# EAGLE library part AT32UC3C0128/0256/0512 (library atmel-avr32-michel)
AT32UC3C0128/0256/0512
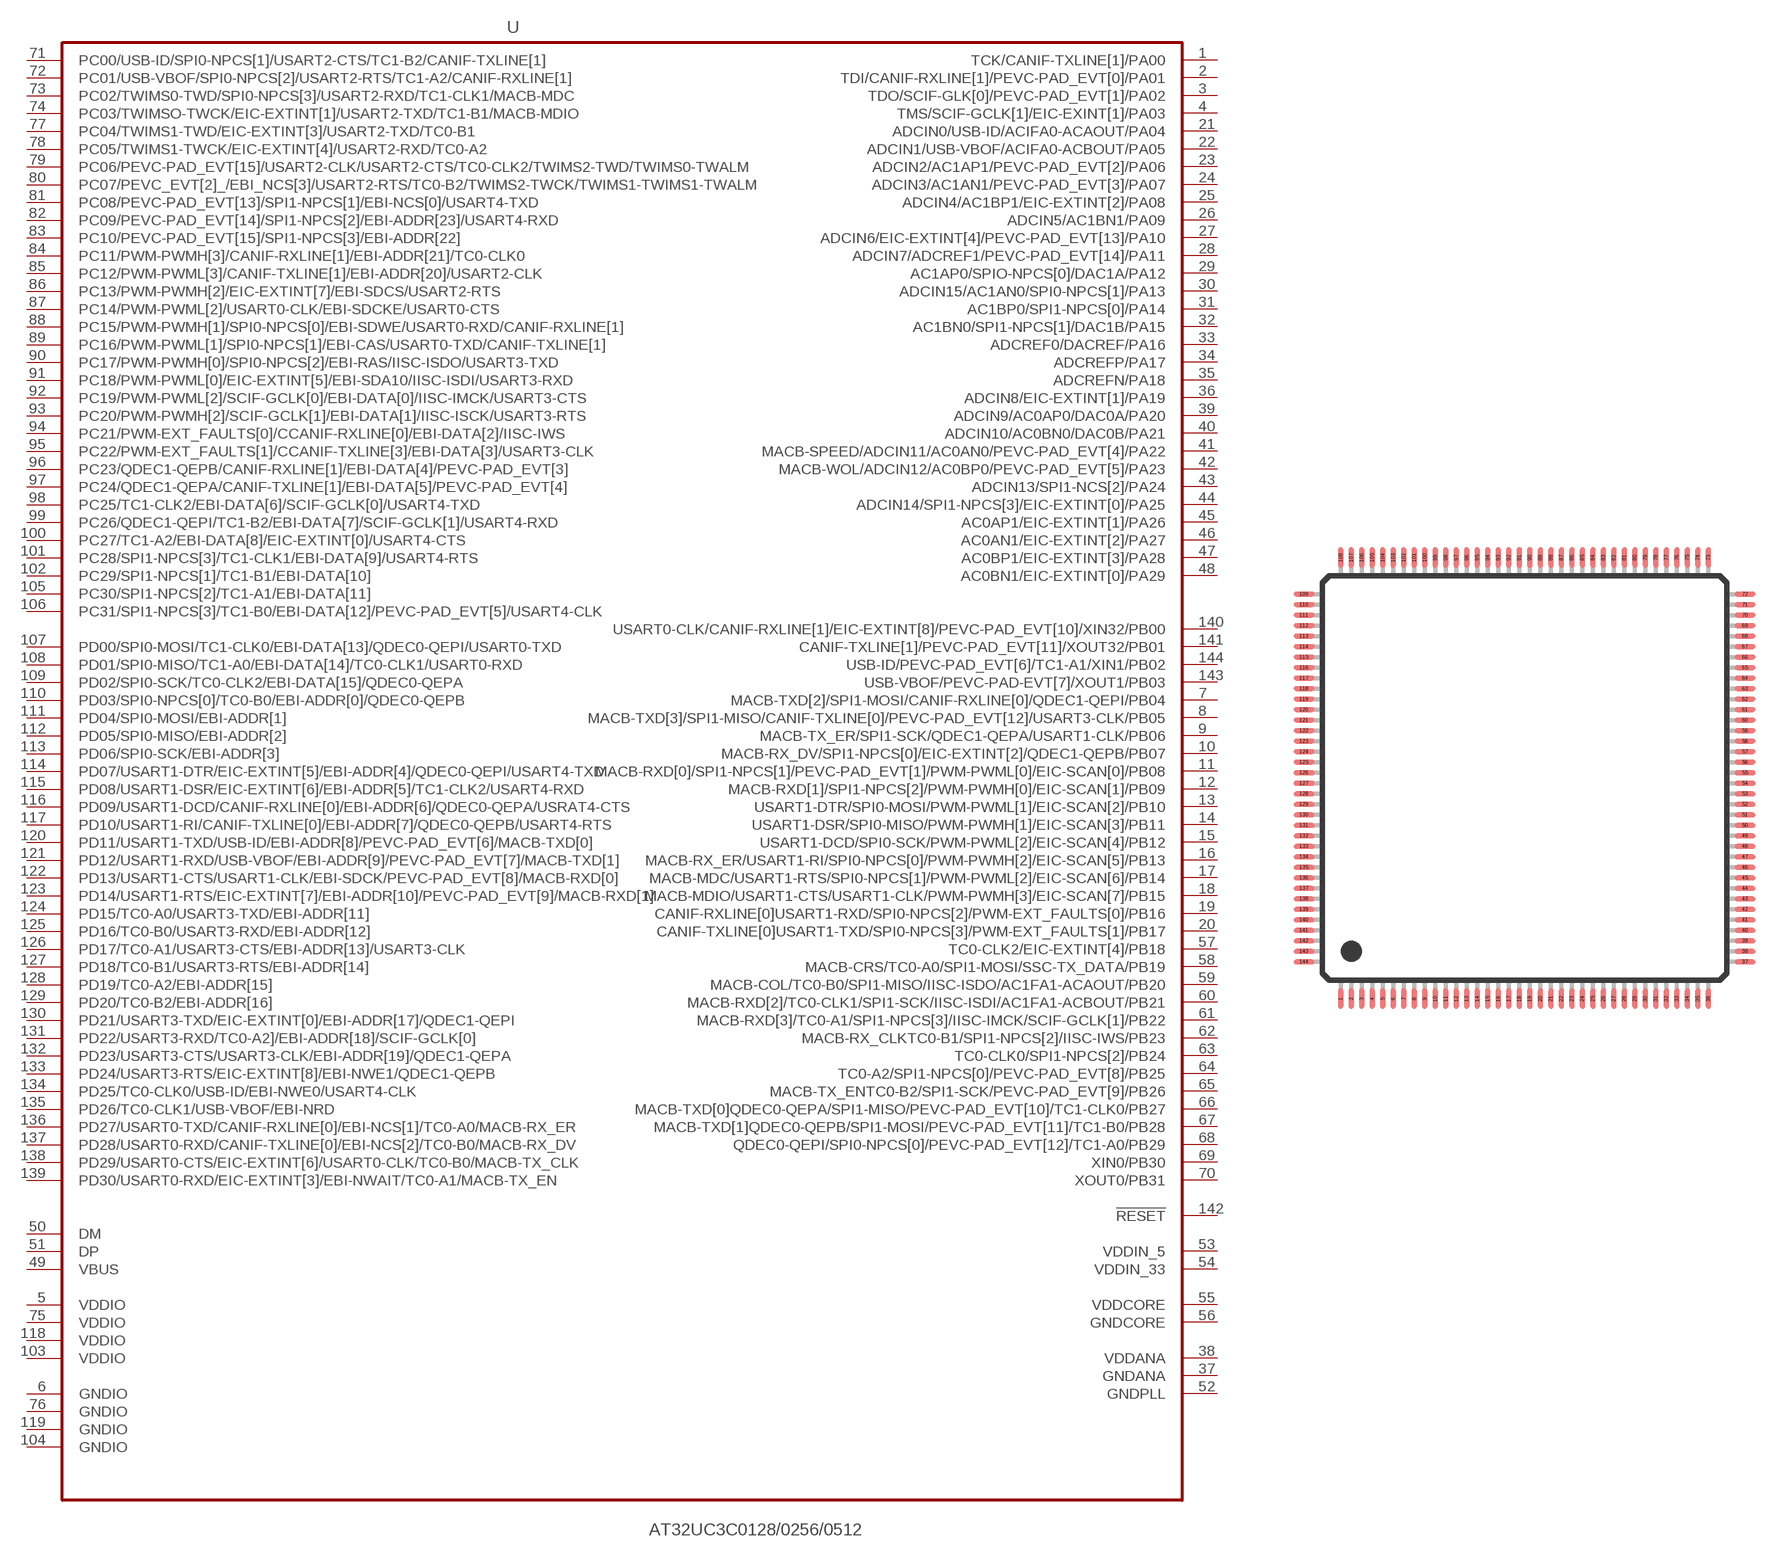
[diagram p5: symbol with the pads of LQFP144; footprint LQFP144]

Designator prefix U

## AT32UC3C0128/0256/0512 (PLACE_PART: YES)  [LQFP144]
1  TCK/CANIF-TXLINE[1]/PA00
2  TDI/CANIF-RXLINE[1]/PEVC-PAD_EVT[0]/PA01
3  TDO/SCIF-GLK[0]/PEVC-PAD_EVT[1]/PA02
4  TMS/SCIF-GCLK[1]/EIC-EXINT[1]/PA03
5  VDDIO  pwr
6  GNDIO  pwr
7  MACB-TXD[2]/SPI1-MOSI/CANIF-RXLINE[0]/QDEC1-QEPI/PB04
8  MACB-TXD[3]/SPI1-MISO/CANIF-TXLINE[0]/PEVC-PAD_EVT[12]/USART3-CLK/PB05
9  MACB-TX_ER/SPI1-SCK/QDEC1-QEPA/USART1-CLK/PB06
10  MACB-RX_DV/SPI1-NPCS[0]/EIC-EXTINT[2]/QDEC1-QEPB/PB07
11  MACB-RXD[0]/SPI1-NPCS[1]/PEVC-PAD_EVT[1]/PWM-PWML[0]/EIC-SCAN[0]/PB08
12  MACB-RXD[1]/SPI1-NPCS[2]/PWM-PWMH[0]/EIC-SCAN[1]/PB09
13  USART1-DTR/SPI0-MOSI/PWM-PWML[1]/EIC-SCAN[2]/PB10
14  USART1-DSR/SPI0-MISO/PWM-PWMH[1]/EIC-SCAN[3]/PB11
15  USART1-DCD/SPI0-SCK/PWM-PWML[2]/EIC-SCAN[4]/PB12
16  MACB-RX_ER/USART1-RI/SPI0-NPCS[0]/PWM-PWMH[2]/EIC-SCAN[5]/PB13
17  MACB-MDC/USART1-RTS/SPI0-NPCS[1]/PWM-PWML[2]/EIC-SCAN[6]/PB14
18  MACB-MDIO/USART1-CTS/USART1-CLK/PWM-PWMH[3]/EIC-SCAN[7]/PB15
19  CANIF-RXLINE[0]USART1-RXD/SPI0-NPCS[2]/PWM-EXT_FAULTS[0]/PB16
20  CANIF-TXLINE[0]USART1-TXD/SPI0-NPCS[3]/PWM-EXT_FAULTS[1]/PB17
21  ADCIN0/USB-ID/ACIFA0-ACAOUT/PA04
22  ADCIN1/USB-VBOF/ACIFA0-ACBOUT/PA05
23  ADCIN2/AC1AP1/PEVC-PAD_EVT[2]/PA06
24  ADCIN3/AC1AN1/PEVC-PAD_EVT[3]/PA07
25  ADCIN4/AC1BP1/EIC-EXTINT[2]/PA08
26  ADCIN5/AC1BN1/PA09
27  ADCIN6/EIC-EXTINT[4]/PEVC-PAD_EVT[13]/PA10
28  ADCIN7/ADCREF1/PEVC-PAD_EVT[14]/PA11
29  AC1AP0/SPIO-NPCS[0]/DAC1A/PA12
30  ADCIN15/AC1AN0/SPI0-NPCS[1]/PA13
31  AC1BP0/SPI1-NPCS[0]/PA14
32  AC1BN0/SPI1-NPCS[1]/DAC1B/PA15
33  ADCREF0/DACREF/PA16
34  ADCREFP/PA17
35  ADCREFN/PA18
36  ADCIN8/EIC-EXTINT[1]/PA19
37  GNDANA  pwr
38  VDDANA  pwr
39  ADCIN9/AC0AP0/DAC0A/PA20
40  ADCIN10/AC0BN0/DAC0B/PA21
41  MACB-SPEED/ADCIN11/AC0AN0/PEVC-PAD_EVT[4]/PA22
42  MACB-WOL/ADCIN12/AC0BP0/PEVC-PAD_EVT[5]/PA23
43  ADCIN13/SPI1-NCS[2]/PA24
44  ADCIN14/SPI1-NPCS[3]/EIC-EXTINT[0]/PA25
45  AC0AP1/EIC-EXTINT[1]/PA26
46  AC0AN1/EIC-EXTINT[2]/PA27
47  AC0BP1/EIC-EXTINT[3]/PA28
48  AC0BN1/EIC-EXTINT[0]/PA29
49  VBUS
50  DM
51  DP
52  GNDPLL  pwr
53  VDDIN_5  pwr
54  VDDIN_33  pwr
55  VDDCORE  pwr
56  GNDCORE  pwr
57  TC0-CLK2/EIC-EXTINT[4]/PB18
58  MACB-CRS/TC0-A0/SPI1-MOSI/SSC-TX_DATA/PB19
59  MACB-COL/TC0-B0/SPI1-MISO/IISC-ISDO/AC1FA1-ACAOUT/PB20
60  MACB-RXD[2]/TC0-CLK1/SPI1-SCK/IISC-ISDI/AC1FA1-ACBOUT/PB21
61  MACB-RXD[3]/TC0-A1/SPI1-NPCS[3]/IISC-IMCK/SCIF-GCLK[1]/PB22
62  MACB-RX_CLKTC0-B1/SPI1-NPCS[2]/IISC-IWS/PB23
63  TC0-CLK0/SPI1-NPCS[2]/PB24
64  TC0-A2/SPI1-NPCS[0]/PEVC-PAD_EVT[8]/PB25
65  MACB-TX_ENTC0-B2/SPI1-SCK/PEVC-PAD_EVT[9]/PB26
66  MACB-TXD[0]QDEC0-QEPA/SPI1-MISO/PEVC-PAD_EVT[10]/TC1-CLK0/PB27
67  MACB-TXD[1]QDEC0-QEPB/SPI1-MOSI/PEVC-PAD_EVT[11]/TC1-B0/PB28
68  QDEC0-QEPI/SPI0-NPCS[0]/PEVC-PAD_EVT[12]/TC1-A0/PB29
69  XIN0/PB30
70  XOUT0/PB31
71  PC00/USB-ID/SPI0-NPCS[1]/USART2-CTS/TC1-B2/CANIF-TXLINE[1]
72  PC01/USB-VBOF/SPI0-NPCS[2]/USART2-RTS/TC1-A2/CANIF-RXLINE[1]
73  PC02/TWIMS0-TWD/SPI0-NPCS[3]/USART2-RXD/TC1-CLK1/MACB-MDC
74  PC03/TWIMSO-TWCK/EIC-EXTINT[1]/USART2-TXD/TC1-B1/MACB-MDIO
75  VDDIO  pwr
76  GNDIO  pwr
77  PC04/TWIMS1-TWD/EIC-EXTINT[3]/USART2-TXD/TC0-B1
78  PC05/TWIMS1-TWCK/EIC-EXTINT[4]/USART2-RXD/TC0-A2
79  PC06/PEVC-PAD_EVT[15]/USART2-CLK/USART2-CTS/TC0-CLK2/TWIMS2-TWD/TWIMS0-TWALM
80  PC07/PEVC_EVT[2]_/EBI_NCS[3]/USART2-RTS/TC0-B2/TWIMS2-TWCK/TWIMS1-TWIMS1-TWALM
81  PC08/PEVC-PAD_EVT[13]/SPI1-NPCS[1]/EBI-NCS[0]/USART4-TXD
82  PC09/PEVC-PAD_EVT[14]/SPI1-NPCS[2]/EBI-ADDR[23]/USART4-RXD
83  PC10/PEVC-PAD_EVT[15]/SPI1-NPCS[3]/EBI-ADDR[22]
84  PC11/PWM-PWMH[3]/CANIF-RXLINE[1]/EBI-ADDR[21]/TC0-CLK0
85  PC12/PWM-PWML[3]/CANIF-TXLINE[1]/EBI-ADDR[20]/USART2-CLK
86  PC13/PWM-PWMH[2]/EIC-EXTINT[7]/EBI-SDCS/USART2-RTS
87  PC14/PWM-PWML[2]/USART0-CLK/EBI-SDCKE/USART0-CTS
88  PC15/PWM-PWMH[1]/SPI0-NPCS[0]/EBI-SDWE/USART0-RXD/CANIF-RXLINE[1]
89  PC16/PWM-PWML[1]/SPI0-NPCS[1]/EBI-CAS/USART0-TXD/CANIF-TXLINE[1]
90  PC17/PWM-PWMH[0]/SPI0-NPCS[2]/EBI-RAS/IISC-ISDO/USART3-TXD
91  PC18/PWM-PWML[0]/EIC-EXTINT[5]/EBI-SDA10/IISC-ISDI/USART3-RXD
92  PC19/PWM-PWML[2]/SCIF-GCLK[0]/EBI-DATA[0]/IISC-IMCK/USART3-CTS
93  PC20/PWM-PWMH[2]/SCIF-GCLK[1]/EBI-DATA[1]/IISC-ISCK/USART3-RTS
94  PC21/PWM-EXT_FAULTS[0]/CCANIF-RXLINE[0]/EBI-DATA[2]/IISC-IWS
95  PC22/PWM-EXT_FAULTS[1]/CCANIF-TXLINE[3]/EBI-DATA[3]/USART3-CLK
96  PC23/QDEC1-QEPB/CANIF-RXLINE[1]/EBI-DATA[4]/PEVC-PAD_EVT[3]
97  PC24/QDEC1-QEPA/CANIF-TXLINE[1]/EBI-DATA[5]/PEVC-PAD_EVT[4]
98  PC25/TC1-CLK2/EBI-DATA[6]/SCIF-GCLK[0]/USART4-TXD
99  PC26/QDEC1-QEPI/TC1-B2/EBI-DATA[7]/SCIF-GCLK[1]/USART4-RXD
100  PC27/TC1-A2/EBI-DATA[8]/EIC-EXTINT[0]/USART4-CTS
101  PC28/SPI1-NPCS[3]/TC1-CLK1/EBI-DATA[9]/USART4-RTS
102  PC29/SPI1-NPCS[1]/TC1-B1/EBI-DATA[10]
103  VDDIO  pwr
104  GNDIO  pwr
105  PC30/SPI1-NPCS[2]/TC1-A1/EBI-DATA[11]
106  PC31/SPI1-NPCS[3]/TC1-B0/EBI-DATA[12]/PEVC-PAD_EVT[5]/USART4-CLK
107  PD00/SPI0-MOSI/TC1-CLK0/EBI-DATA[13]/QDEC0-QEPI/USART0-TXD
108  PD01/SPI0-MISO/TC1-A0/EBI-DATA[14]/TC0-CLK1/USART0-RXD
109  PD02/SPI0-SCK/TC0-CLK2/EBI-DATA[15]/QDEC0-QEPA
110  PD03/SPI0-NPCS[0]/TC0-B0/EBI-ADDR[0]/QDEC0-QEPB
111  PD04/SPI0-MOSI/EBI-ADDR[1]
112  PD05/SPI0-MISO/EBI-ADDR[2]
113  PD06/SPI0-SCK/EBI-ADDR[3]
114  PD07/USART1-DTR/EIC-EXTINT[5]/EBI-ADDR[4]/QDEC0-QEPI/USART4-TXD
115  PD08/USART1-DSR/EIC-EXTINT[6]/EBI-ADDR[5]/TC1-CLK2/USART4-RXD
116  PD09/USART1-DCD/CANIF-RXLINE[0]/EBI-ADDR[6]/QDEC0-QEPA/USRAT4-CTS
117  PD10/USART1-RI/CANIF-TXLINE[0]/EBI-ADDR[7]/QDEC0-QEPB/USART4-RTS
118  VDDIO  pwr
119  GNDIO  pwr
120  PD11/USART1-TXD/USB-ID/EBI-ADDR[8]/PEVC-PAD_EVT[6]/MACB-TXD[0]
121  PD12/USART1-RXD/USB-VBOF/EBI-ADDR[9]/PEVC-PAD_EVT[7]/MACB-TXD[1]
122  PD13/USART1-CTS/USART1-CLK/EBI-SDCK/PEVC-PAD_EVT[8]/MACB-RXD[0]
123  PD14/USART1-RTS/EIC-EXTINT[7]/EBI-ADDR[10]/PEVC-PAD_EVT[9]/MACB-RXD[1]
124  PD15/TC0-A0/USART3-TXD/EBI-ADDR[11]
125  PD16/TC0-B0/USART3-RXD/EBI-ADDR[12]
126  PD17/TC0-A1/USART3-CTS/EBI-ADDR[13]/USART3-CLK
127  PD18/TC0-B1/USART3-RTS/EBI-ADDR[14]  nc
128  PD19/TC0-A2/EBI-ADDR[15]
129  PD20/TC0-B2/EBI-ADDR[16]
130  PD21/USART3-TXD/EIC-EXTINT[0]/EBI-ADDR[17]/QDEC1-QEPI
131  PD22/USART3-RXD/TC0-A2]/EBI-ADDR[18]/SCIF-GCLK[0]
132  PD23/USART3-CTS/USART3-CLK/EBI-ADDR[19]/QDEC1-QEPA
133  PD24/USART3-RTS/EIC-EXTINT[8]/EBI-NWE1/QDEC1-QEPB
134  PD25/TC0-CLK0/USB-ID/EBI-NWE0/USART4-CLK
135  PD26/TC0-CLK1/USB-VBOF/EBI-NRD
136  PD27/USART0-TXD/CANIF-RXLINE[0]/EBI-NCS[1]/TC0-A0/MACB-RX_ER
137  PD28/USART0-RXD/CANIF-TXLINE[0]/EBI-NCS[2]/TC0-B0/MACB-RX_DV
138  PD29/USART0-CTS/EIC-EXTINT[6]/USART0-CLK/TC0-B0/MACB-TX_CLK
139  PD30/USART0-RXD/EIC-EXTINT[3]/EBI-NWAIT/TC0-A1/MACB-TX_EN
140  USART0-CLK/CANIF-RXLINE[1]/EIC-EXTINT[8]/PEVC-PAD_EVT[10]/XIN32/PB00
141  CANIF-TXLINE[1]/PEVC-PAD_EVT[11]/XOUT32/PB01
142  !RESET  in
143  USB-VBOF/PEVC-PAD-EVT[7]/XOUT1/PB03
144  USB-ID/PEVC-PAD_EVT[6]/TC1-A1/XIN1/PB02

## Footprint LQFP144 (pad centres in mm)
LQFP144 Package
smd 0.25 x 1: 1 -8.75,-10.5; 2 -8.25,-10.5; 3 -7.75,-10.5; 4 -7.25,-10.5; 5 -6.75,-10.5; 6 -6.25,-10.5; 7 -5.75,-10.5; 8 -5.25,-10.5; 9 -4.75,-10.5; 10 -4.25,-10.5; 11 -3.75,-10.5; 12 -3.25,-10.5; 13 -2.75,-10.5; 14 -2.25,-10.5; 15 -1.75,-10.5; 16 -1.25,-10.5; 17 -0.75,-10.5; 18 -0.25,-10.5; 19 0.25,-10.5; 20 0.75,-10.5; 21 1.25,-10.5; 22 1.75,-10.5; 23 2.25,-10.5; 24 2.75,-10.5; 25 3.25,-10.5; 26 3.75,-10.5; 27 4.25,-10.5; 28 4.75,-10.5; 29 5.25,-10.5; 30 5.75,-10.5; 31 6.25,-10.5; 32 6.75,-10.5; 33 7.25,-10.5; 34 7.75,-10.5; 35 8.25,-10.5; 36 8.75,-10.5; 73 8.75,10.5; 74 8.25,10.5; 75 7.75,10.5; 76 7.25,10.5; 77 6.75,10.5; 78 6.25,10.5; 79 5.75,10.5; 80 5.25,10.5; 81 4.75,10.5; 82 4.25,10.5; 83 3.75,10.5; 84 3.25,10.5; 85 2.75,10.5; 86 2.25,10.5; 87 1.75,10.5; 88 1.25,10.5; 89 0.75,10.5; 90 0.25,10.5; 91 -0.25,10.5; 92 -0.75,10.5; 93 -1.25,10.5; 94 -1.75,10.5; 95 -2.25,10.5; 96 -2.75,10.5; 97 -3.25,10.5; 98 -3.75,10.5; 99 -4.25,10.5; 100 -4.75,10.5; 101 -5.25,10.5; 102 -5.75,10.5; 103 -6.25,10.5; 104 -6.75,10.5; 105 -7.25,10.5; 106 -7.75,10.5; 107 -8.25,10.5; 108 -8.75,10.5
smd 1 x 0.25: 37 10.5,-8.75; 38 10.5,-8.25; 39 10.5,-7.75; 40 10.5,-7.25; 41 10.5,-6.75; 42 10.5,-6.25; 43 10.5,-5.75; 44 10.5,-5.25; 45 10.5,-4.75; 46 10.5,-4.25; 47 10.5,-3.75; 48 10.5,-3.25; 49 10.5,-2.75; 50 10.5,-2.25; 51 10.5,-1.75; 52 10.5,-1.25; 53 10.5,-0.75; 54 10.5,-0.25; 55 10.5,0.25; 56 10.5,0.75; 57 10.5,1.25; 58 10.5,1.75; 59 10.5,2.25; 60 10.5,2.75; 61 10.5,3.25; 62 10.5,3.75; 63 10.5,4.25; 64 10.5,4.75; 65 10.5,5.25; 66 10.5,5.75; 67 10.5,6.25; 68 10.5,6.75; 69 10.5,7.25; 70 10.5,7.75; 71 10.5,8.25; 72 10.5,8.75; 109 -10.5,8.75; 110 -10.5,8.25; 111 -10.5,7.75; 112 -10.5,7.25; 113 -10.5,6.75; 114 -10.5,6.25; 115 -10.5,5.75; 116 -10.5,5.25; 117 -10.5,4.75; 118 -10.5,4.25; 119 -10.5,3.75; 120 -10.5,3.25; 121 -10.5,2.75; 122 -10.5,2.25; 123 -10.5,1.75; 124 -10.5,1.25; 125 -10.5,0.75; 126 -10.5,0.25; 127 -10.5,-0.25; 128 -10.5,-0.75; 129 -10.5,-1.25; 130 -10.5,-1.75; 131 -10.5,-2.25; 132 -10.5,-2.75; 133 -10.5,-3.25; 134 -10.5,-3.75; 135 -10.5,-4.25; 136 -10.5,-4.75; 137 -10.5,-5.25; 138 -10.5,-5.75; 139 -10.5,-6.25; 140 -10.5,-6.75; 141 -10.5,-7.25; 142 -10.5,-7.75; 143 -10.5,-8.25; 144 -10.5,-8.75